# Altium schematic symbol library MSPS003F4SPW20R.SchLib: 1 symbol
Pins are listed as number, name and electrical type; pins without a type are passive.

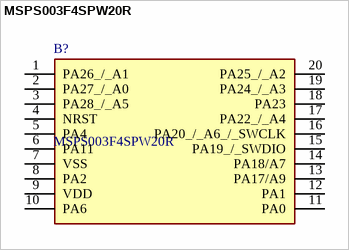
[diagram p0: symbol MSPS003F4SPW20R]

## MSPS003F4SPW20R
designator B?
Core  Arm 32-bit Cortex-M0+ CPU, frequency up to 24MHz  Operating characteristics  Extended temperature: 40C to 125C  Wide supply voltage range: 1.62V to 3.6V  Memories  Up to 16KB of flash  1KB of SRAM  High-performance analog peripherals  One analog-to-digital converter (ADC) with up to 10 total external channels, 1.7Msps at 10 bit or 1.5Msps at 12 bit with VDD as the voltage reference  Configurable 1.4V or 2.5V internal ADC voltage reference (VREF)  Integrated temperature; Manufacturer_Name: Texas Instruments; Geometry.Height: 1.2mm; Mouser Part Number: 595-MSPS003F4SPW20R; Mouser Price/Stock: https://www.mouser.co.uk/ProductDetail/Texas-Instruments/MSPS003F4SPW20R?qs=IKkN%2F947nfB2%252B17BcsFJOQ%3D%3D; Manufacturer_Part_Number: MSPS003F4SPW20R; Datasheet Link: https://www.ti.com/lit/gpn/mspm0c1104
footprint SOP65P640X120-20N
pins: 1 PA26_/_A1, 2 PA27_/_A0, 3 PA28_/_A5, 4 NRST, 5 PA4, 6 PA11, 7 VSS, 8 PA2, 9 VDD, 10 PA6, 11 PA0, 12 PA1, 13 PA17/A9, 14 PA18/A7, 15 PA19_/_SWDIO, 16 PA20_/_A6_/_SWCLK, 17 PA22_/_A4, 18 PA23, 19 PA24_/_A3, 20 PA25_/_A2